# EAGLE library part PC1222 (library potenciometry)
Dvojité potenciometry s kovovým pouzdrem 0,08W
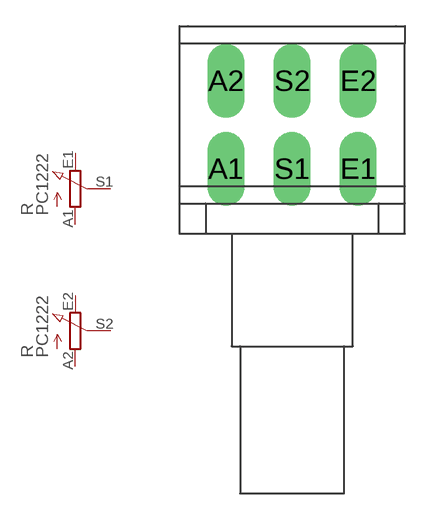
[diagram p1: symbol with the pads of PC1222; footprint PC1222]

Designator prefix R; gates G$1=POT_EU2 G$2=POT_EU2

## PC1222  [PC1222]
A1  G$1:A  pas
A2  G$2:A  pas
E1  G$1:E  pas
E2  G$2:E  pas
S1  G$1:S  pas
S2  G$2:S  pas

## Footprint PC1222 (pad centres in mm)
drill 1.422 pad 1.778 long: A1 -3.81,0; A2 -3.81,5.08; E1 3.81,0; E2 3.81,5.08; S1 0,0; S2 0,5.08